# Altium footprint library 编码器1.PcbLib: 1 footprints
Each footprint in its own frame and in the unit in brackets; x right, y up, seen from the top. Pads: shape width x height; smd on the part's side, far side on the other; paste and mask are expansions set on the pad; w line width, h text height; cw(c..) or ccw(c..) is an arc to the next point about the centre after c.
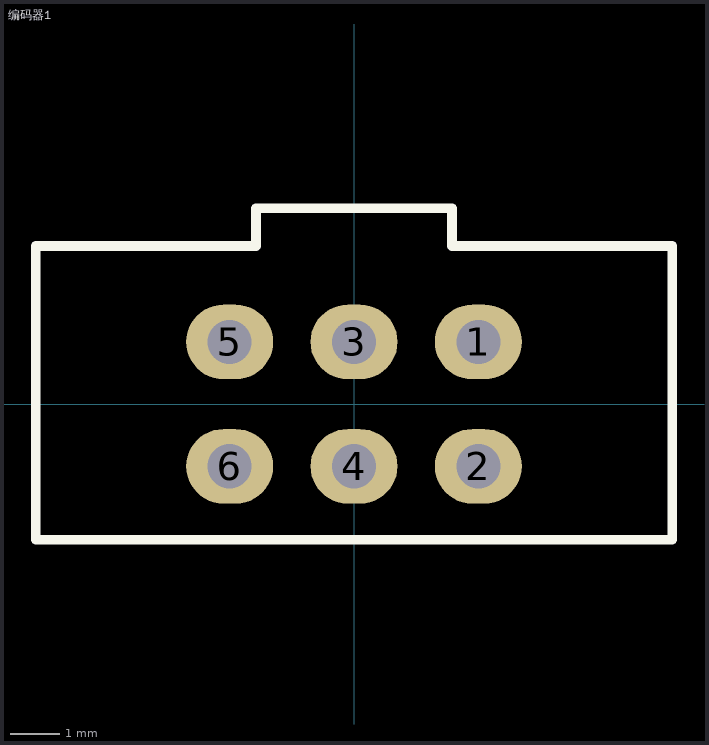
[diagram p0: the footprint, top view; thin cyan lines are the x and y axes]

## 编码器1 [mil]
pads (6):
  oval 70x60 hole 35.43: 1(100,50) 2(100,-50) 3(0,50) 4(0,-50) 5(-100,50) 6(-100,-50)
Top Overlay:
  lines w7.87: -255.91,-109.06 255.91,-109.06 255.91,127.17 118.11,127.17 78.74,127.17 78.74,157.48 -78.74,157.48 -78.74,127.17 -118.11,127.17 -255.91,127.17 -255.91,-109.06